# Altium schematic symbol library XP_2P.Schlib: 1 symbol
Pins are listed as number, name and electrical type; pins without a type are passive.

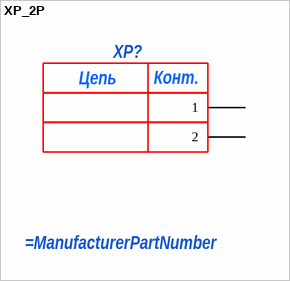
[diagram p0: symbol XP_2P]

## XP_2P
designator XP?
pins: 1, 2
text: Цепь; Конт.